# EAGLE library part HEADER-09P-1R (library deiring-components)
Header 9 Pin 1 Row
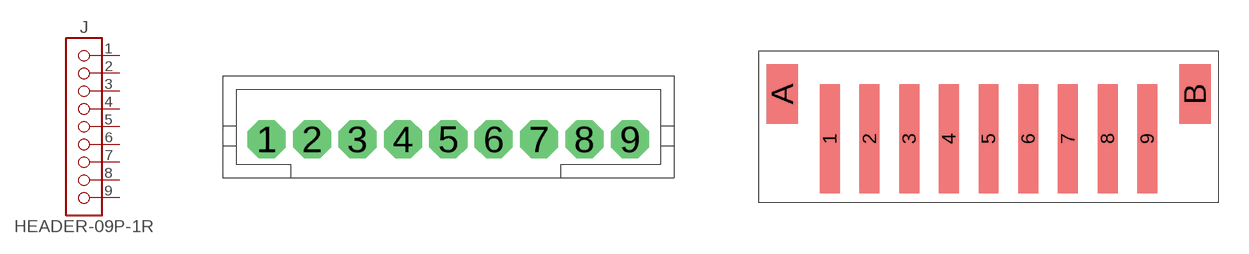
[diagram p36: symbol with the pads of JST-B9B-PH-K-S; footprints JST-B9B-PH-K-S, JST-B9B-PH-SM4-TB]

Designator prefix J

## HEADER-09P-1R-B9B-PH-K-S (LCSC: C157968; MF: JST Sales America; MPN: B9B-PH-K-S(LF)(SN); VALUE: 9P)  [JST-B9B-PH-K-S]
1  01  pas
2  02  pas
3  03  pas
4  04  pas
5  05  pas
6  06  pas
7  07  pas
8  08  pas
9  09  pas

## HEADER-09P-1R-B9B-PH-SM4-TB (LCSC: C545753; MF: JST Sales America; MPN: B9B-PH-SM4-TB(LF)(SN); VALUE: 9P)  [JST-B9B-PH-SM4-TB]
Pads as for JST-B9B-PH-K-S

## HEADER-09P-1R-S9B-PH-K-S (LCSC: C157912; MF: JST Sales America; MPN: S9B-PH-K-S(LF)(SN); VALUE: 9P)  [JST-S9B-PH-K-S]
Pads as for JST-B9B-PH-K-S

## HEADER-09P-1R-S9B-PH-SM4-TB (LCSC: C495694; MF: JST Sales America; MPN: S9B-PH-SM4-TB(LF)(SN); VALUE: 9P)  [JST-S9B-PH-SM4-TB]
Pads as for JST-B9B-PH-K-S

## HEADER-09P-1R-KF2EDGV-5.08-9P (LCSC: C441361; MF: Cixi Kefa Elec; MPN: KF2EDGV-5.08-9P; VALUE: 9P)  [KF2EDGV-5.08-9P]
Pads as for JST-B9B-PH-K-S

## HEADER-09P-1R-WJ15EDGVC-3.81-9P (LCSC: C49737; MF: Ningbo Kangnex Elec; MPN: WJ15EDGVC-3.81-9P; VALUE: 9P)  [WJ15EDGVC-3.81-9P]
Pads as for JST-B9B-PH-K-S

## HEADER-09P-1R-KF2EDGR-5.08-9P (LCSC: C441211; MF: Cixi Kefa Elec; MPN: KF2EDGR-5.08-9P; VALUE: 9P)  [KF2EDGR-5.08-9P]
Pads as for JST-B9B-PH-K-S

## Footprint JST-B9B-PH-K-S (pad centres in mm)
drill 0.813 pad 1.676 octagon: 1 -8,0; 2 -6,0; 3 -4,0; 4 -2,0; 5 0,0; 6 2,0; 7 4,0; 8 6,0; 9 8,0

## Footprint JST-B9B-PH-SM4-TB (pad centres in mm)
smd 1 x 5.5: 1 -8,0; 2 -6,0; 3 -4,0; 4 -2,0; 5 0,0; 6 2,0; 7 4,0; 8 6,0; 9 8,0
smd 1.6 x 3: A -10.4,2.25; B 10.4,2.25

## Footprint JST-S9B-PH-K-S (pad centres in mm)
drill 0.813 pad 1.676 octagon: 1 -8,0; 2 -6,0; 3 -4,0; 4 -2,0; 5 0,0; 6 2,0; 7 4,0; 8 6,0; 9 8,0

## Footprint JST-S9B-PH-SM4-TB (pad centres in mm)
smd 1 x 3.5: 1 -8,0; 2 -6,0; 3 -4,0; 4 -2,0; 5 0,0; 6 2,0; 7 4,0; 8 6,0; 9 8,0
smd 1.5 x 3.4: A -10.35,5.55; B 10.35,5.55

## Footprint KF2EDGV-5.08-9P (pad centres in mm)
drill 1.6: 1 -20.32,0; 2 -15.24,0; 3 -10.16,0; 4 -5.08,0; 5 0,0; 6 5.08,0; 7 10.16,0; 8 15.24,0; 9 20.32,0

## Footprint WJ15EDGVC-3.81-9P (pad centres in mm)
drill 1.2 pad 2: 1 -15.24,0; 2 -11.43,0; 3 -7.62,0; 4 -3.81,0; 5 0,0; 6 3.81,0; 7 7.62,0; 8 11.43,0; 9 15.24,0

## Footprint KF2EDGR-5.08-9P (pad centres in mm)
drill 1.6: 1 -20.32,0; 2 -15.24,0; 3 -10.16,0; 4 -5.08,0; 5 0,0; 6 5.08,0; 7 10.16,0; 8 15.24,0; 9 20.32,0